# EAGLE library part UVA_MODULE (library Zenith_Breakouts)
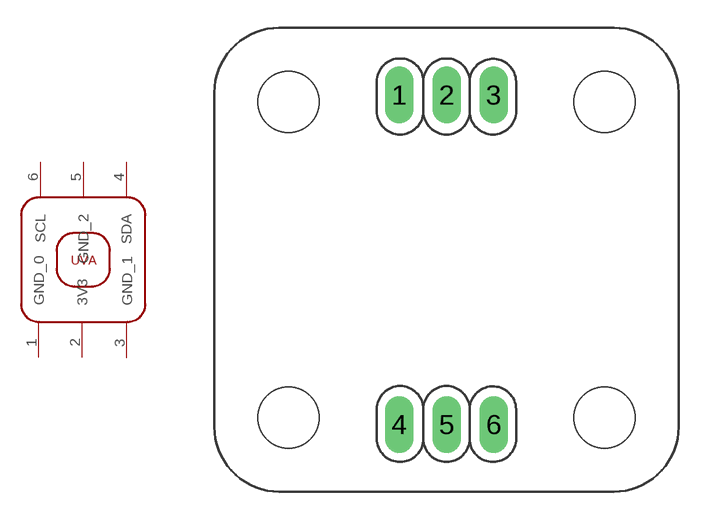
[diagram p1: symbol with the pads of UVA_MODULE; footprint UVA_MODULE]

Designator prefix -

## UVA_MODULE  [UVA_MODULE]
1  GND_0
2  3V3
3  GND_1
4  SDA
5  GND_2
6  SCL

## Footprint UVA_MODULE (pad centres in mm)
drill 1.016 long: 1 9.96,-3.62; 2 12.5,-3.62; 3 15.04,-3.62; 4 9.96,-21.38; 5 12.5,-21.38; 6 15.04,-21.38